# Altium footprint library NB-Lib.PcbLib: 8 footprints
Each footprint in its own frame and in the unit in brackets; x right, y up, seen from the top. Pads: shape width x height; smd on the part's side, far side on the other; paste and mask are expansions set on the pad; w line width, h text height; cw(c..) or ccw(c..) is an arc to the next point about the centre after c.
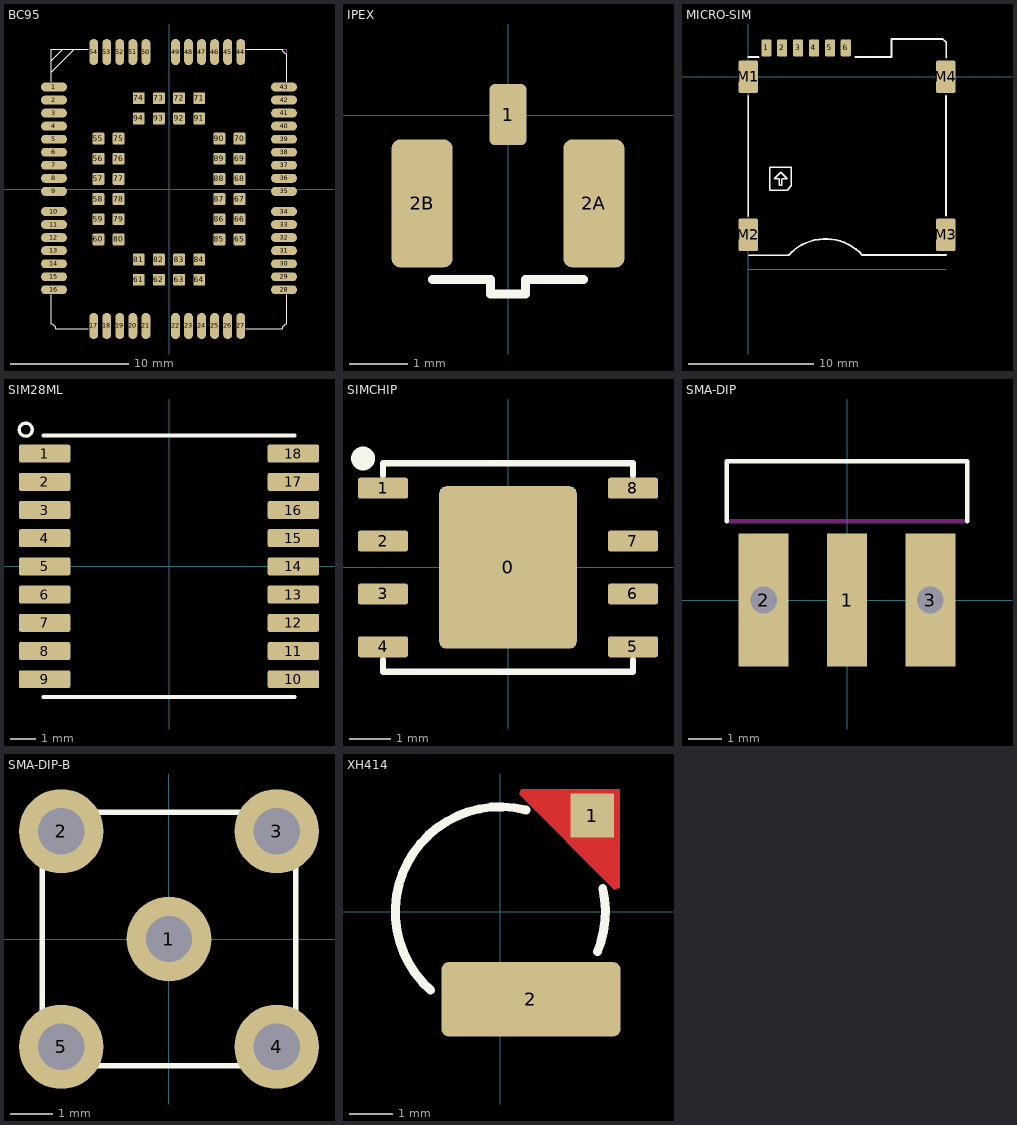
[diagram p0: the footprints below, top view; thin cyan lines are the x and y axes]

## BC95 [mm]
pads (94):
  oval 2.2x0.75 smd: 1(-9.7,8.6) 2(-9.7,7.5) 3(-9.7,6.4) 4(-9.7,5.3) 5(-9.7,4.2) 6(-9.7,3.1) 7(-9.7,2) 8(-9.7,0.9) 9(-9.7,-0.2) 10(-9.7,-1.9) 11(-9.7,-3) 12(-9.7,-4.1) 13(-9.7,-5.2) 14(-9.7,-6.3) 15(-9.7,-7.4) 16(-9.7,-8.5) 28(9.7,-8.5) 29(9.7,-7.4) 30(9.7,-6.3) 31(9.7,-5.2) 32(9.7,-4.1) 33(9.7,-3) 34(9.7,-1.9) 35(9.7,-0.2) 36(9.7,0.9) 37(9.7,2) 38(9.7,3.1) 39(9.7,4.2) 40(9.7,5.3) 41(9.7,6.4) 42(9.7,7.5) 43(9.7,8.6)
  oval 0.75x2.2 smd: 17(-6.35,-11.55) 18(-5.25,-11.55) 19(-4.15,-11.55) 20(-3.05,-11.55) 21(-1.95,-11.55) 22(0.55,-11.55) 23(1.65,-11.55) 24(2.75,-11.55) 25(3.85,-11.55) 26(4.95,-11.55) 27(6.05,-11.55) 44(6.05,11.55) 45(4.95,11.55) 46(3.85,11.55) 47(2.75,11.55) 48(1.65,11.55) 49(0.55,11.55) 50(-1.95,11.55) 51(-3.05,11.55) 52(-4.15,11.55) 53(-5.25,11.55) 54(-6.35,11.55)
  rrect20% 1x1 smd: 55(-5.95,4.25) 56(-5.95,2.55) 57(-5.95,0.85) 58(-5.95,-0.85) 59(-5.95,-2.55) 60(-5.95,-4.25) 61(-2.55,-7.65) 62(-0.85,-7.65) 63(0.85,-7.65) 64(2.55,-7.65) 65(5.95,-4.25) 66(5.95,-2.55) 67(5.95,-0.85) 68(5.95,0.85) 69(5.95,2.55) 70(5.95,4.25) 71(2.55,7.65) 72(0.85,7.65) 73(-0.85,7.65) 74(-2.55,7.65) 75(-4.25,4.25) 76(-4.25,2.55) 77(-4.25,0.85) 78(-4.25,-0.85) 79(-4.25,-2.55) 80(-4.25,-4.25) 81(-2.55,-5.95) 82(-0.85,-5.95) 83(0.85,-5.95) 84(2.55,-5.95) 85(4.25,-4.25) 86(4.25,-2.55) 87(4.25,-0.85) 88(4.25,0.85) 89(4.25,2.55) 90(4.25,4.25) 91(2.55,5.95) 92(0.85,5.95) 93(-0.85,5.95) 94(-2.55,5.95)
Top Overlay:
  lines w0.1: -9.95,-8.922 -9.95,-11.4 cw(c-9.95,-11.8) -9.55,-11.8 -6.793,-11.8 ; -9.95,9.049 -9.95,11.8 ; -9.95,9.851 -8.001,11.8 -9.271,11.8 ; -9.95,10.033 -9.95,11.375 ; -9.95,10.414 -9.95,11.8 ; -9.931,10.82 -8.966,11.786 ; -8.437,11.8 -9.95,11.8 ; -6.793,11.8 -9.95,11.8 ; 6.463,11.8 9.55,11.8 ccw(c9.95,11.8) 9.95,11.4 9.95,9.049 ; 6.488,-11.8 9.55,-11.8 cw(c9.95,-11.8) 9.95,-11.4 9.95,-8.922
Mechanical 13:
  lines w0.076: 9.55,11.8 9.95,11.8 9.95,11.4
3D body: height 2.4, standoff 0.03, extent -9.95,-11.8 9.95,11.8

## IPEX [mm]
pads (3):
  rrect30% 0.635x1.05 smd: 1(-0.007,0.008)
  rrect30% 1.05x2.2 smd: 2A(1.468,-1.517) 2B(-1.482,-1.517)
Top Overlay:
  lines w0.152: -1.307,-2.821 -0.307,-2.821 -0.307,-3.071 0.293,-3.071 0.293,-2.821 1.293,-2.821
3D body: height 0.76, standoff 0, extent -1.012,-2.413 1.012,-0.385
3D body: height 0.25, standoff 0.03, extent -1.372,-2.819 1.397,0

## MICRO-SIM [mm] "6P 自弹式"
pads (10):
  rrect20% 0.8x1.34 smd: 1(1.44,2.3) 2(2.71,2.3) 3(3.98,2.3) 4(5.25,2.3) 5(6.52,2.3) 6(7.79,2.3)
  rrect20% 1.56x2.61 smd: M1(0,0) M2(0,-12.63) M3(15.78,-12.63) M4(15.78,0)
Top Overlay:
  lines w0.1: 2.095,-8.141 2.591,-7.645 3.099,-8.153 2.692,-8.153 ; 2.108,-8.153 2.489,-8.153 2.489,-8.661 ; 2.515,-8.661 2.692,-8.661 2.692,-8.179 ; 3.454,-8.585 3.454,-7.239 1.727,-7.239 1.727,-9.068 3.099,-9.068 3.454,-8.712 3.454,-8.357
  lines w0.152: 0,-11.125 0,-1.524 ; 0,1.575 0.813,1.575 ; 0.046,-14.264 3.218,-14.264 ; 3.218,-14.258 cw(c6.172,-16.955) 9.114,-14.245 ; 8.572,1.575 11.43,1.575 11.43,3.018 15.54,3.018 15.82,2.739 15.82,1.524 ; 9.113,-14.246 15.799,-14.246 ; 15.799,-11.1 15.799,-1.524
Mechanical 13:
  lines w0.025: 0,-15.4 15.799,-15.4
3D body: height 1, standoff 0.03, extent 0,-14.264 15.82,3.018

## SIM28ML [mm]
pads (18):
  rrect20% 2x0.7 smd: 1(-4.85,4.4) 2(-4.85,3.3) 3(-4.85,2.2) 4(-4.85,1.1) 5(-4.85,0) 6(-4.85,-1.1) 7(-4.85,-2.2) 8(-4.85,-3.3) 9(-4.85,-4.4) 10(4.85,-4.4) 11(4.85,-3.3) 12(4.85,-2.2) 13(4.85,-1.1) 14(4.85,0) 15(4.85,1.1) 16(4.85,2.2) 17(4.85,3.3) 18(4.85,4.4)
Top Overlay:
  circle w0.127: c-5.588,5.334 r0.254
  lines w0.152: -4.89,-5.1 4.9,-5.1 ; -4.89,5.1 4.9,5.1
3D body: height 1, standoff 0.03, extent -4.89,-5.1 4.9,5.1

## SIMCHIP [mm]
pads (9):
  rrect10% 3.3x3.9 smd mask+0.051: 0(0,0)
  rrect20% 1.2x0.5 smd: 1(-3,1.905) 2(-3,0.635) 3(-3,-0.635) 4(-3,-1.905) 5(3,-1.905) 6(3,-0.635) 7(3,0.635) 8(3,1.905)
Top Overlay:
  circle w0.457: c-3.48,2.616 r0.057
  lines w0.152: -3,-2.207 -3,-2.5 3,-2.5 3,-2.207 ; -3,2.207 -3,2.5 3,2.5 3,2.207
3D body: height 0.51, standoff 0.03, extent -3,-2.5 3,2.5

## SMA-DIP [mm]
pads (3):
  rect 1.2x4 smd: 1(0,0)
  rect 1.5x4 hole 0.8: 2(-2.5,0) 3(2.5,0)
Top Overlay:
  lines w0.127: -3.607,2.361 -3.607,4.161 3.607,4.161 3.607,2.361
Keep-Out Layer:
  lines w0.127: -3.607,2.361 3.607,2.361

## SMA-DIP-B [mm]
pads (5):
  round 2 hole 1.1: 1(0,0) 2(-2.55,2.55) 3(2.55,2.55) 4(2.55,-2.55) 5(-2.55,-2.55)
Top Overlay:
  lines w0.127: -3,-3 -3,3 ; -3,-3 -3,3 ; -3,-3 3,-3 3,3 -3,3

## XH414 [mm]
pads (2):
  rect 1x1 smd: 1(2.1,2.2)
  rrect20% 4.1x1.7 smd: 2(0.7,-2)
Top Layer:
  region: 2.724,0.553 2.606,0.504 0.428,2.683 0.476,2.8 2.724,2.8
Top Overlay:
  lines w0.203: -1.594,-1.794 cw(c0,0) 0.582,2.328 ; 2.221,-0.909 ccw(c0,0) 2.34,0.532
Top Solder:
  region: 2.706,0.559 2.589,0.511 0.411,2.689 0.459,2.806 2.706,2.806
3D body: height 2, standoff 0, extent -2.54,-2.495 2.44,2.495